# Altium footprint library local_lib.PcbLib: 1 footprints
Each footprint in its own frame and in the unit in brackets; x right, y up, seen from the top. Pads: shape width x height; smd on the part's side, far side on the other; paste and mask are expansions set on the pad; w line width, h text height; cw(c..) or ccw(c..) is an arc to the next point about the centre after c.
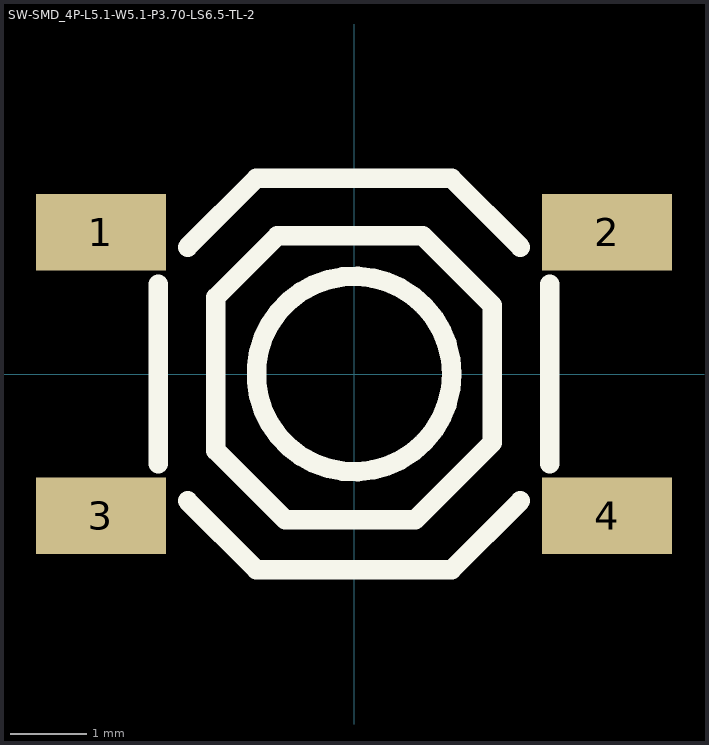
[diagram p0: the footprint, top view; thin cyan lines are the x and y axes]

## SW-SMD_4P-L5.1-W5.1-P3.70-LS6.5-TL-2 [mm]
pads (4):
  rect 1.7x1 smd paste+0 mask+0.051: 1(-3.3,1.85) 2(3.3,1.85) 3(-3.3,-1.85) 4(3.3,-1.85)
Top Overlay:
  circle w0.254: c0,0 r1.275
  lines w0.254: -2.55,-1.168 -2.55,1.168 ; -2.17,-1.655 -1.275,-2.55 1.275,-2.55 2.17,-1.655 ; -2.17,1.655 -1.275,2.55 1.275,2.55 2.17,1.655 ; 2.55,-1.168 2.55,1.168 ; -1.801,-0.998 -0.899,-1.9 0.8,-1.9 1.801,-0.899 1.801,0.899 0.899,1.801 -1.001,1.801 -1.801,1.001 -1.801,-0.998
3D body "Unnamed-PCBModel.step": height 1.55, standoff 0, extent -3.2,-2.601 3.2,2.601